# Altium footprint library Nucleo_Card.PcbLib: 1 footprints
Each footprint in its own frame and in the unit in brackets; x right, y up, seen from the top. Pads: shape width x height; smd on the part's side, far side on the other; paste and mask are expansions set on the pad; w line width, h text height; cw(c..) or ccw(c..) is an arc to the next point about the centre after c.
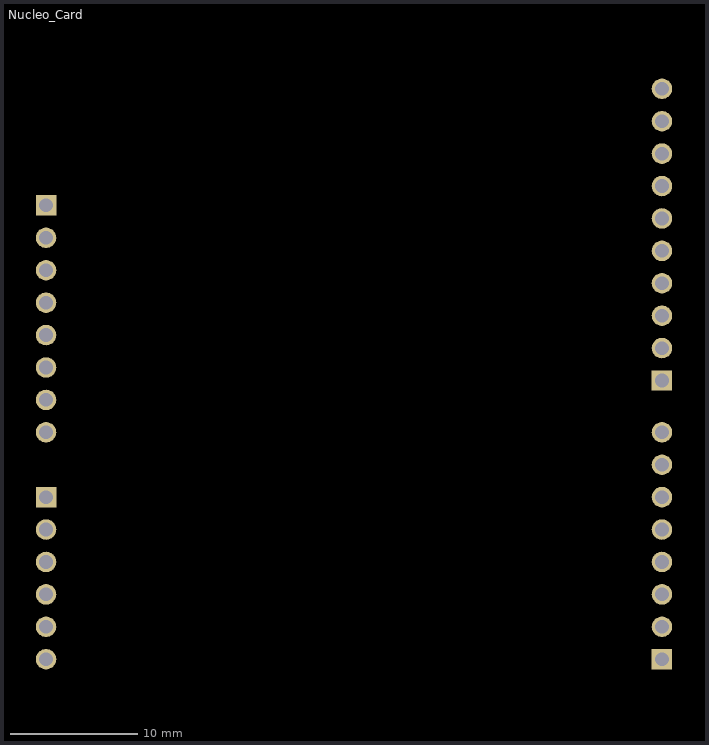
[diagram p0: the footprint, top view; thin cyan lines are the x and y axes]

## Nucleo_Card [mm]
pads (32):
  rect 1.605x1.605 / inner round 1.605 / far side rect 1.605x1.605 hole 1.07: CN5-1(85.88,51.84) CN6-1(37.62,65.56) CN8-1(37.62,42.7) CN9-1(85.88,30)
  round 1.605 hole 1.07: CN5-2(85.88,54.38) CN5-3(85.88,56.92) CN5-4(85.88,59.46) CN5-5(85.88,62) CN5-6(85.88,64.54) CN5-7(85.88,67.08) CN5-8(85.88,69.62) CN5-9(85.88,72.16) CN5-10(85.88,74.7) CN6-2(37.62,63.02) CN6-3(37.62,60.48) CN6-4(37.62,57.94) CN6-5(37.62,55.4) CN6-6(37.62,52.86) CN6-7(37.62,50.32) CN6-8(37.62,47.78) CN8-2(37.62,40.16) CN8-3(37.62,37.62) CN8-4(37.62,35.08) CN8-5(37.62,32.54) CN8-6(37.62,30) CN9-2(85.88,32.54) CN9-3(85.88,35.08) CN9-4(85.88,37.62) CN9-5(85.88,40.16) CN9-6(85.88,42.7) CN9-7(85.88,45.24) CN9-8(85.88,47.78)
Top Designator (Mech29):
  text ".Designator" at 53.332,53.817 h1.52